# Altium schematic symbol library CAV24C128.Schlib: 1 symbol
Pins are listed as number, name and electrical type; pins without a type are passive.

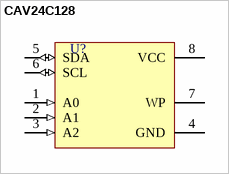
[diagram p0: symbol CAV24C128]

## CAV24C128
designator U?
EEPROM Memory
pins: 1 A0 (in), 2 A1 (in), 3 A2 (in), 4 GND (power), 5 SDA (io), 6 SCL (io), 7 WP (power), 8 VCC (power)